# Altium schematic symbol library MJ-3502.SchLib: 1 symbol
Pins are listed as number, name and electrical type; pins without a type are passive.

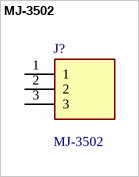
[diagram p0: symbol MJ-3502]

## MJ-3502
designator J?
Phone Connectors Audio Jacks; Manufacturer_Name: CUI Devices; Geometry.Height: 11.3mm; Mouser Part Number: 490-MJ-3502; Mouser Price/Stock: https://www.mouser.co.uk/ProductDetail/CUI-Devices/MJ-3502?qs=WyjlAZoYn50fBk6kEetS8g%3D%3D; Manufacturer_Part_Number: MJ-3502; Datasheet Link: https://www.cuidevices.com/product/resource/digikeypdf/mj-3502.pdf
footprint MJ3502
pins: 1, 2, 3